# EAGLE library part 10118194-0001LF (library con-usb)
CONN USB MICRO B RECPT SMT R/A
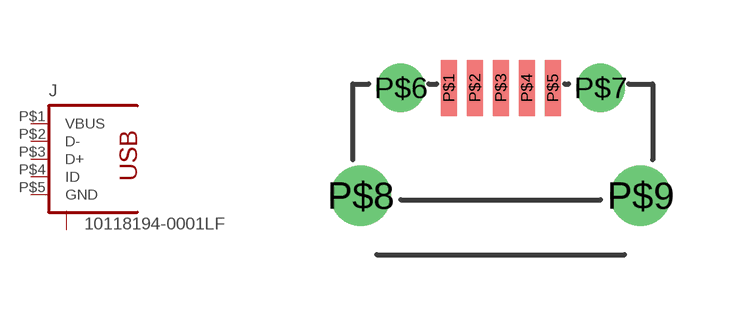
[diagram p12: symbol with the pads of 10118194-001LF; footprint 10118194-001LF]

Designator prefix J

## 10118194-0001LF (DIGIKEY: 609-4618-1-ND)  [10118194-001LF]
P$1  VBUS  pas
P$2  D-  pas
P$3  D+  pas
P$4  ID  pas
P$5  GND  pas
P$6  S  pas
P$7  S  pas
P$8  S  pas
P$9  S  pas

## Footprint 10118194-001LF (pad centres in mm)
smd 0.4 x 1.4: P$1 -1.3,2.7; P$2 -0.65,2.7; P$3 0,2.7; P$4 0.65,2.7; P$5 1.3,2.7
drill 0.7: P$6 -2.5,2.7; P$7 2.5,2.7
drill 1: P$8 -3.5,0; P$9 3.5,0